# EAGLE library part 418117270910 (library Eagle_SWITCHES (rev18c))
2.54 mm compact THT with raised actuator WS-DITV, 10 Pole <http://katalog.we-online.de/media/images/v2/Family_WS_BS_4181172709xx_pf2.jpg> Details see: http://katalog.we-online.de/en/em/DITV_2_54_COMPACT_THT_WITH_RAISED_ACTUATOR 2015 (C) Wurth Elektronik
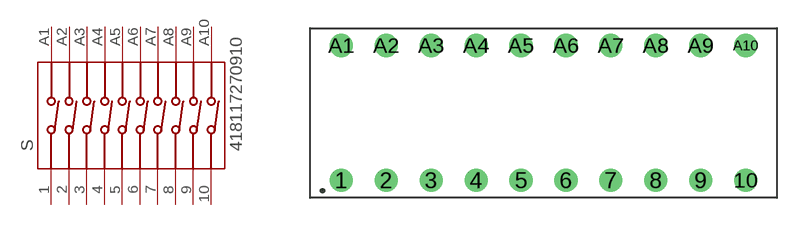
[diagram p40: symbol with the pads of 418117270910; footprint 418117270910]

Designator prefix S

## 418117270910  [418117270910]
1  1  pas
2  2  pas
3  3  pas
4  4  pas
5  5  pas
6  6  pas
7  7  pas
8  8  pas
9  9  pas
10  10  pas
A1  A1  pas
A2  A2  pas
A3  A3  pas
A4  A4  pas
A5  A5  pas
A6  A6  pas
A7  A7  pas
A8  A8  pas
A9  A9  pas
A10  A10  pas

## Footprint 418117270910 (pad centres in mm)
WS-BS 2.54 mm compact THT Dip Switch with raised actuator, 10 Pole
drill 0.8: 1 -11.43,-3.81; 2 -8.89,-3.81; 3 -6.35,-3.81; 4 -3.81,-3.81; 5 -1.27,-3.81; 6 1.27,-3.81; 7 3.81,-3.81; 8 6.35,-3.81; 9 8.89,-3.81; 10 11.43,-3.81; A1 -11.43,3.81; A2 -8.89,3.81; A3 -6.35,3.81; A4 -3.81,3.81; A5 -1.27,3.81; A6 1.27,3.81; A7 3.81,3.81; A8 6.35,3.81; A9 8.89,3.81; A10 11.43,3.81